# EAGLE library part HEF4067B (library HyperTriangle)
4-line to 16-channel analogue multiplexer/demultiplexer
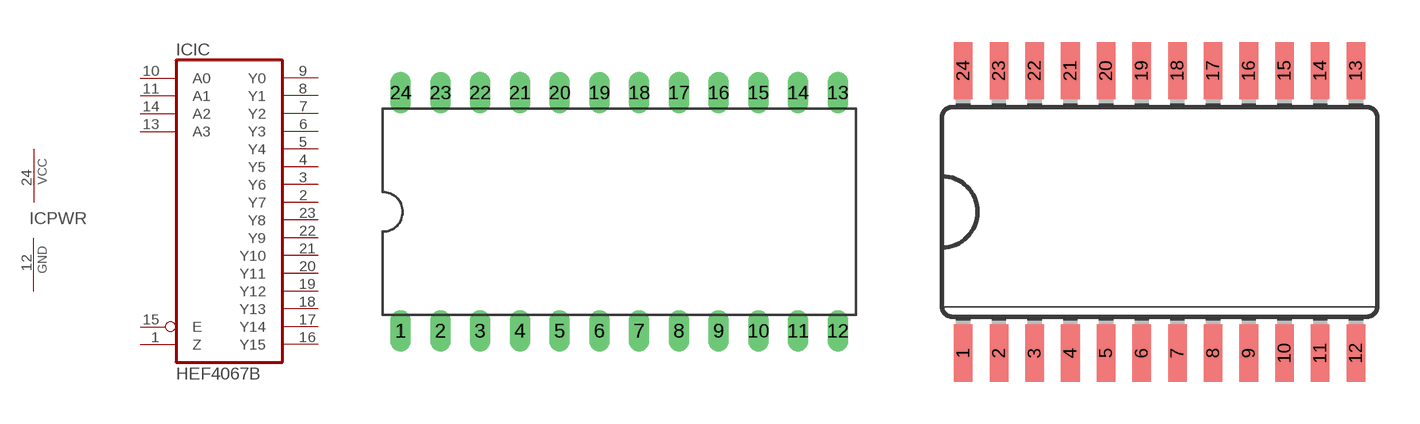
[diagram p0: symbol with the pads of DIL24-6; footprints DIL24-6, SO24W]

Designator prefix IC; gates IC=HEF4067B PWR=PWRN

## HEF4067BP  [DIL24-6]
1  IC:Z  in
2  IC:Y7  oc
3  IC:Y6  oc
4  IC:Y5  oc
5  IC:Y4  oc
6  IC:Y3  oc
7  IC:Y2  oc
8  IC:Y1  oc
9  IC:Y0  oc
10  IC:A0  in
11  IC:A1  in
12  PWR:GND  pwr
13  IC:A3  in
14  IC:A2  in
15  IC:E  in
16  IC:Y15  oc
17  IC:Y14  oc
18  IC:Y13  oc
19  IC:Y12  oc
20  IC:Y11  oc
21  IC:Y10  oc
22  IC:Y9  oc
23  IC:Y8  oc
24  PWR:VCC  pwr

## HEF4067BT  [SO24W]
Pads as for DIL24-6

## Footprint DIL24-6 (pad centres in mm)
Dual In Line Package 0.6 inch
drill 0.813 long: 1 -13.97,-7.62; 2 -11.43,-7.62; 3 -8.89,-7.62; 4 -6.35,-7.62; 5 -3.81,-7.62; 6 -1.27,-7.62; 7 1.27,-7.62; 8 3.81,-7.62; 9 6.35,-7.62; 10 8.89,-7.62; 11 11.43,-7.62; 12 13.97,-7.62; 13 13.97,7.62; 14 11.43,7.62; 15 8.89,7.62; 16 6.35,7.62; 17 3.81,7.62; 18 1.27,7.62; 19 -1.27,7.62; 20 -3.81,7.62; 21 -6.35,7.62; 22 -8.89,7.62; 23 -11.43,7.62; 24 -13.97,7.62

## Footprint SO24W (pad centres in mm)
Wide Small Outline package 300 mil
smd 0.66 x 2.032: 1 -6.985,-5.029; 2 -5.715,-5.029; 3 -4.445,-5.029; 4 -3.175,-5.029; 5 -1.905,-5.029; 6 -0.635,-5.029; 7 0.635,-5.029; 8 1.905,-5.029; 9 3.175,-5.029; 10 4.445,-5.029; 11 5.715,-5.029; 12 6.985,-5.029; 13 6.985,5.029; 14 5.715,5.029; 15 4.445,5.029; 16 3.175,5.029; 17 1.905,5.029; 18 0.635,5.029; 19 -0.635,5.029; 20 -1.905,5.029; 21 -3.175,5.029; 22 -4.445,5.029; 23 -5.715,5.029; 24 -6.985,5.029